# EAGLE library part LDL212D33R (library host)
LDO Voltage Regulators POWER MANAGEMENT High PSRR, low drop linear regulator IC Source: Datasheet <https://componentsearchengine.com/Datasheets/1/LDL212D33R.pdf>
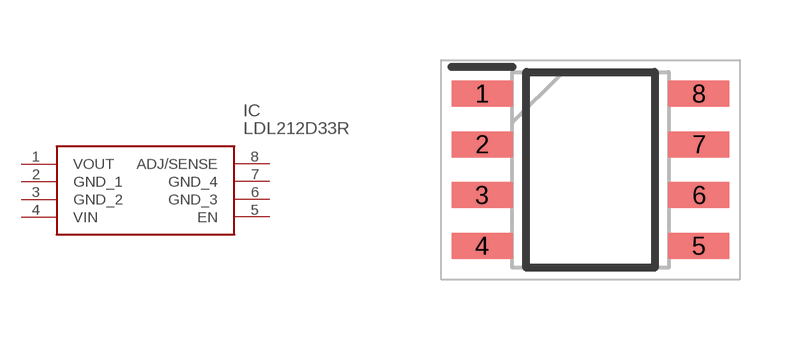
[diagram p5: symbol with the pads of SOIC127P600X175-8N; footprint SOIC127P600X175-8N]

Designator prefix IC

## LDL212D33R (ARROW_PART_NUMBER: LDL212D33R; ARROW_PRICE-STOCK: https://www.arrow.com/en/products/ldl212d33r/stmicroelectronics?region=nac; DESCRIPTION: LDO Voltage Regulators POWER MANAGEMENT High PSRR, low drop linear regulator IC; HEIGHT: 1.75mm; MANUFACTURER_NAME: STMicroelectronics; MANUFACTURER_PART_NUMBER: LDL212D33R; MOUSER_PART_NUMBER: 511-LDL212D33R; MOUSER_PRICE-STOCK: https://www.mouser.co.uk/ProductDetail/STMicroelectronics/LDL212D33R?qs=5aG0NVq1C4xzFK6t28Ai5w%3D%3D)  [SOIC127P600X175-8N]
1  VOUT
2  GND_1
3  GND_2
4  VIN
5  EN
6  GND_3
7  GND_4
8  ADJ/SENSE

## Footprint SOIC127P600X175-8N (pad centres in mm)
SO-8*
smd 1.525 x 0.65: 1 -2.712,1.905; 2 -2.712,0.635; 3 -2.712,-0.635; 4 -2.712,-1.905; 5 2.712,-1.905; 6 2.712,-0.635; 7 2.712,0.635; 8 2.712,1.905